# EAGLE library part AP1509 (library JoesCustom)
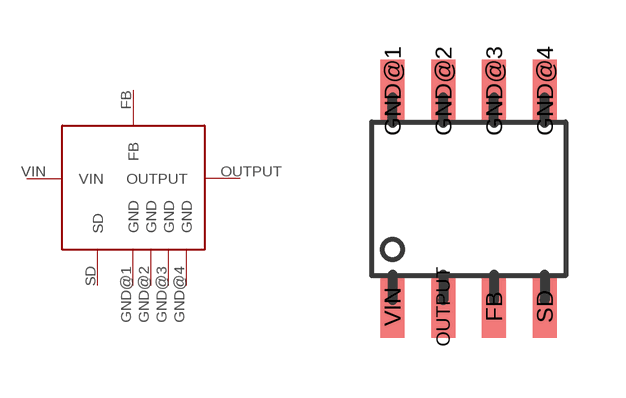
[diagram p9: symbol with the pads of SOIC8; footprint SOIC8]

Designator prefix -

## AP1509  [SOIC8]
FB  FB
GND@1  GND
GND@2  GND
GND@3  GND
GND@4  GND
OUTPUT  OUTPUT
SD  SD
VIN  VIN

## Footprint SOIC8 (pad centres in mm)
smd 0.6 x 1.55: FB 0.635,-2.7; GND@1 -1.905,2.7; GND@2 -0.635,2.7; GND@3 0.635,2.7; GND@4 1.905,2.7; OUTPUT -0.635,-2.7; SD 1.905,-2.7; VIN -1.905,-2.7